# Altium schematic symbol library Connectors.SchLib: 107 symbols
Pins are listed as number, name and electrical type; pins without a type are passive.

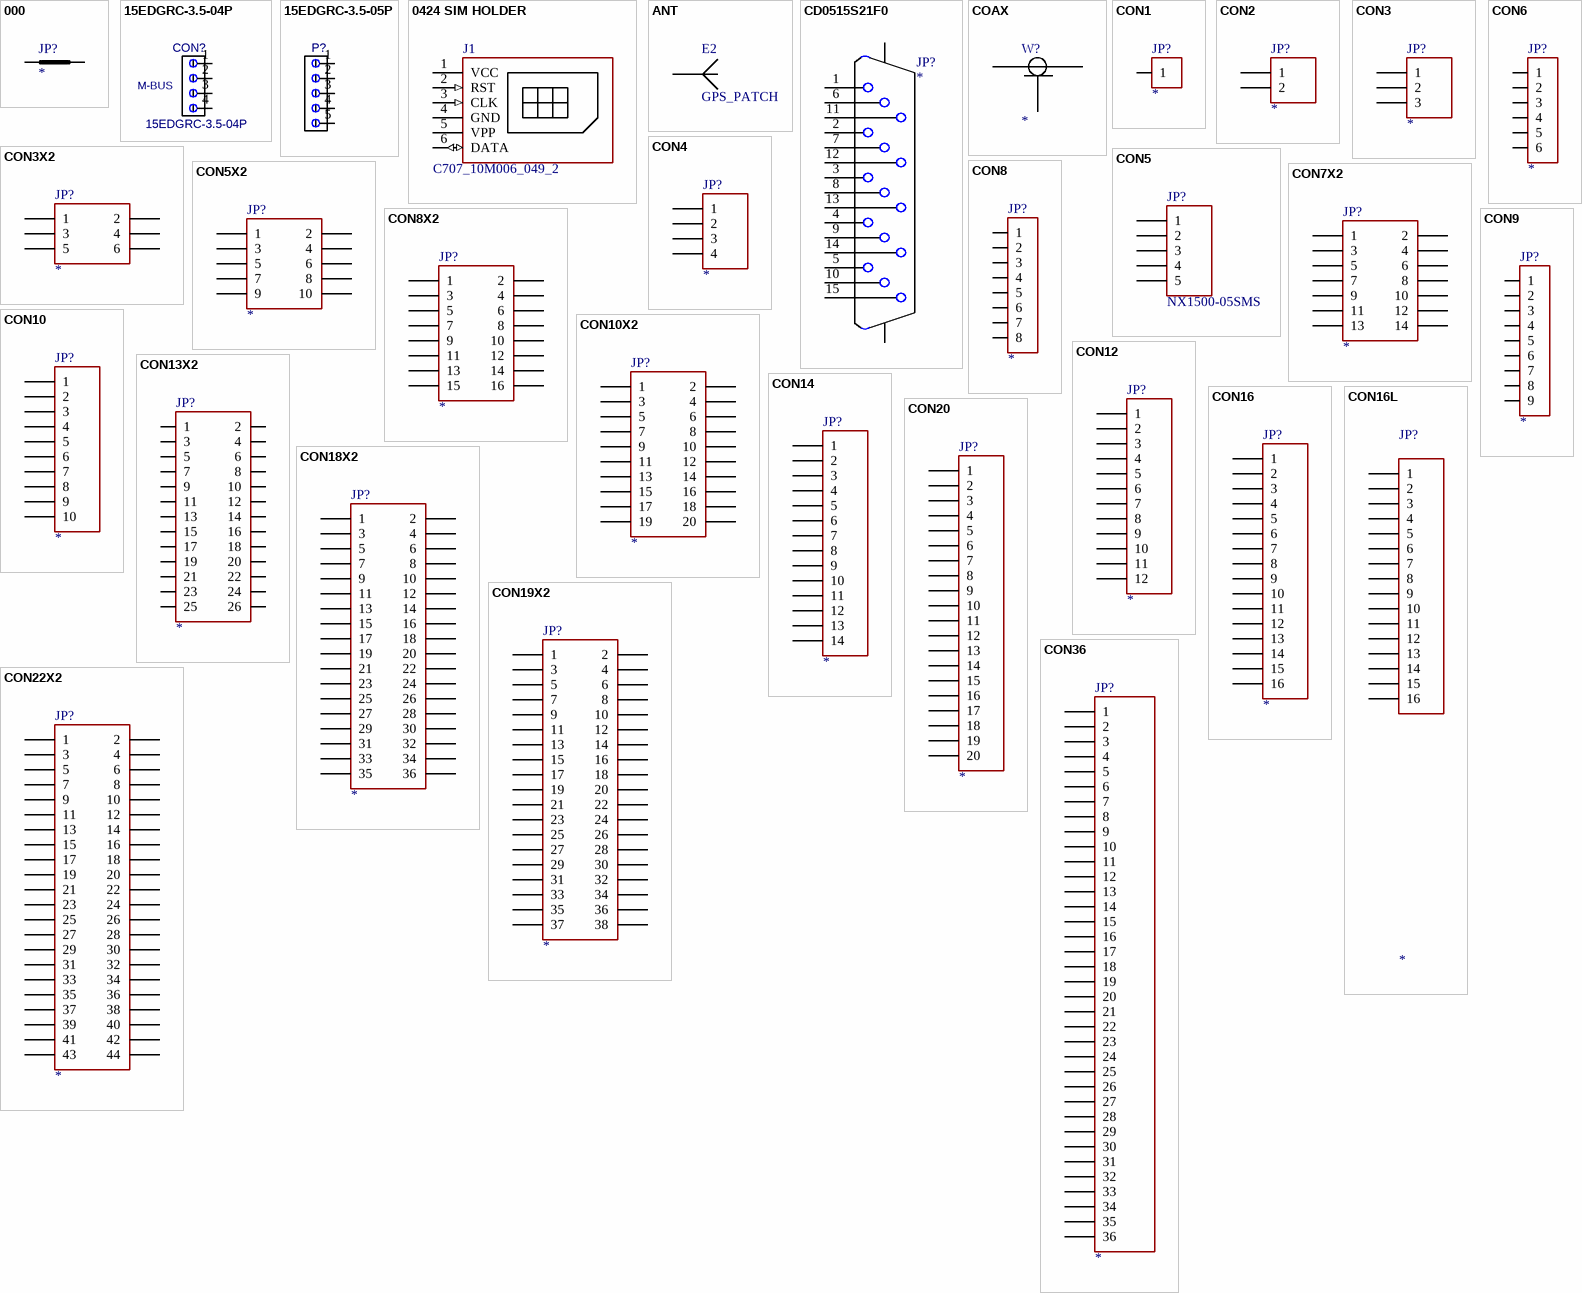
[diagram p0: symbols 000 to CON36]

## 000
designator JP?
Вид: Net Tie; *: *
footprint R-0805
footprint R-0603
footprint R-1206
footprint R-0402 (Chip Resistor, 2-Leads, Body 1,05x0,54mm, IPC Medium Density)
pins: 1, 2

## 15EDGRC-3.5-04P
designator CON?  value M-BUS
footprint 15EDGRC-3.5-04P
pins: 1, 2, 3, 4

## 15EDGRC-3.5-05P
designator P?  (value not drawn)
Value: *
footprint 15EDGRC-3.5-05P
pins: 1, 2, 3, 4, 5

## 0424 SIM HOLDER
designator J1, comment C707_10M006_049_2
Вид: Роз'єм
pins: 1 VCC (power), 2 RST (in), 3 CLK (in), 4 GND (power), 5 VPP (power), 6 DATA (io)

## ANT
designator E2, comment GPS_PATCH
Примітки: Пряма; Вид: Антена
footprint ANT_H868_V (helical 868 MHz antenna)
footprint SPRING433
footprint GPSANT_1818
pins: 1

## CD0515S21F0
designator JP?
Вид: Роз'єм; *: *
footprint CD0515S21F0
pins: 1, 2, 3, 4, 5, 6, 7, 8, 9, 10, 11, 12, 13, 14, 15, 16 (power), 17 (power)

## COAX
designator W?
Coaxial; Вид: Роз'єм; *: *
pins: 1 CENTER 1, 2 CENTER 2, 3 SHIELD

## CON1
designator JP?
Вид: Роз'єм; *: *
pins: 1

## CON2
designator JP?
Вид: Роз'єм; *: *
pins: 1, 2

## CON3
designator JP?
Вид: Роз'єм; *: *
pins: 1, 2, 3

## CON3X2
designator JP?
Вид: Роз'єм; *: *
pins: 1, 2, 3, 4, 5, 6

## CON4
designator JP?
Connector; Вид: Роз'єм; *: *
pins: 1, 2, 3, 4

## CON5
designator JP?, comment NX1500-05SMS
Вид: Роз'єм; Voltage: *; Виробник: *
footprint B5B-ZR
pins: 1, 2, 3, 4, 5

## CON5X2
designator JP?
Вид: Роз'єм; *: *
pins: 1, 2, 3, 4, 5, 6, 7, 8, 9, 10

## CON6
designator JP?
Вид: Роз'єм; *: *
pins: 1, 2, 3, 4, 5, 6

## CON7X2
designator JP?
Вид: Роз'єм; *: *
pins: 1, 2, 3, 4, 5, 6, 7, 8, 9, 10, 11, 12, 13, 14

## CON8
designator JP?
Вид: Роз'єм; *: *
pins: 1, 2, 3, 4, 5, 6, 7, 8

## CON8X2
designator JP?
Вид: Роз'єм; *: *
pins: 1, 2, 3, 4, 5, 6, 7, 8, 9, 10, 11, 12, 13, 14, 15, 16

## CON9
designator JP?
Вид: Роз'єм; *: *
pins: 1, 2, 3, 4, 5, 6, 7, 8, 9

## CON10
designator JP?
Вид: Роз'єм; *: *
pins: 1, 2, 3, 4, 5, 6, 7, 8, 9, 10

## CON10X2
designator JP?
Вид: Роз'єм; *: *
pins: 1, 2, 3, 4, 5, 6, 7, 8, 9, 10, 11, 12, 13, 14, 15, 16, 17, 18, 19, 20

## CON12
designator JP?
Connector; Вид: Роз'єм; *: *
pins: 1, 2, 3, 4, 5, 6, 7, 8, 9, 10, 11, 12

## CON13X2
designator JP?
Вид: Роз'єм; *: *
pins: 1, 2, 3, 4, 5, 6, 7, 8, 9, 10, 11, 12, 13, 14, 15, 16, 17, 18, 19, 20, 21, 22, 23, 24, 25, 26

## CON14
designator JP?
Connector; Вид: Роз'єм; *: *
pins: 1, 2, 3, 4, 5, 6, 7, 8, 9, 10, 11, 12, 13, 14

## CON16
designator JP?
Connector; Вид: Роз'єм; *: *
pins: 1, 2, 3, 4, 5, 6, 7, 8, 9, 10, 11, 12, 13, 14, 15, 16

## CON16L
designator JP?
Connector; Вид: Роз'єм; *: *
pins: 1, 2, 3, 4, 5, 6, 7, 8, 9, 10, 11, 12, 13, 14, 15, 16

## CON18X2
designator JP?
Вид: Роз'єм; *: *
pins: 1, 2, 3, 4, 5, 6, 7, 8, 9, 10, 11, 12, 13, 14, 15, 16, 17, 18, 19, 20, 21, 22, 23, 24, 25, 26, 27, 28, 29, 30, 31, 32, 33, 34, 35, 36

## CON19X2
designator JP?
Вид: Роз'єм; *: *
pins: 1, 2, 3, 4, 5, 6, 7, 8, 9, 10, 11, 12, 13, 14, 15, 16, 17, 18, 19, 20, 21, 22, 23, 24, 25, 26, 27, 28, 29, 30, 31, 32, 33, 34, 35, 36, 37, 38

## CON20
designator JP?
Connector; Вид: Роз'єм; *: *
pins: 1, 2, 3, 4, 5, 6, 7, 8, 9, 10, 11, 12, 13, 14, 15, 16, 17, 18, 19, 20

## CON22X2
designator JP?
Вид: Роз'єм; *: *
pins: 1, 2, 3, 4, 5, 6, 7, 8, 9, 10, 11, 12, 13, 14, 15, 16, 17, 18, 19, 20, 21, 22, 23, 24, 25, 26, 27, 28, 29, 30, 31, 32, 33, 34, 35, 36, 37, 38, 39, 40, 41, 42, 43, 44

## CON36
designator JP?
Connector; Вид: Роз'єм; *: *
pins: 1, 2, 3, 4, 5, 6, 7, 8, 9, 10, 11, 12, 13, 14, 15, 16, 17, 18, 19, 20, 21, 22, 23, 24, 25, 26, 27, 28, 29, 30, 31, 32, 33, 34, 35, 36

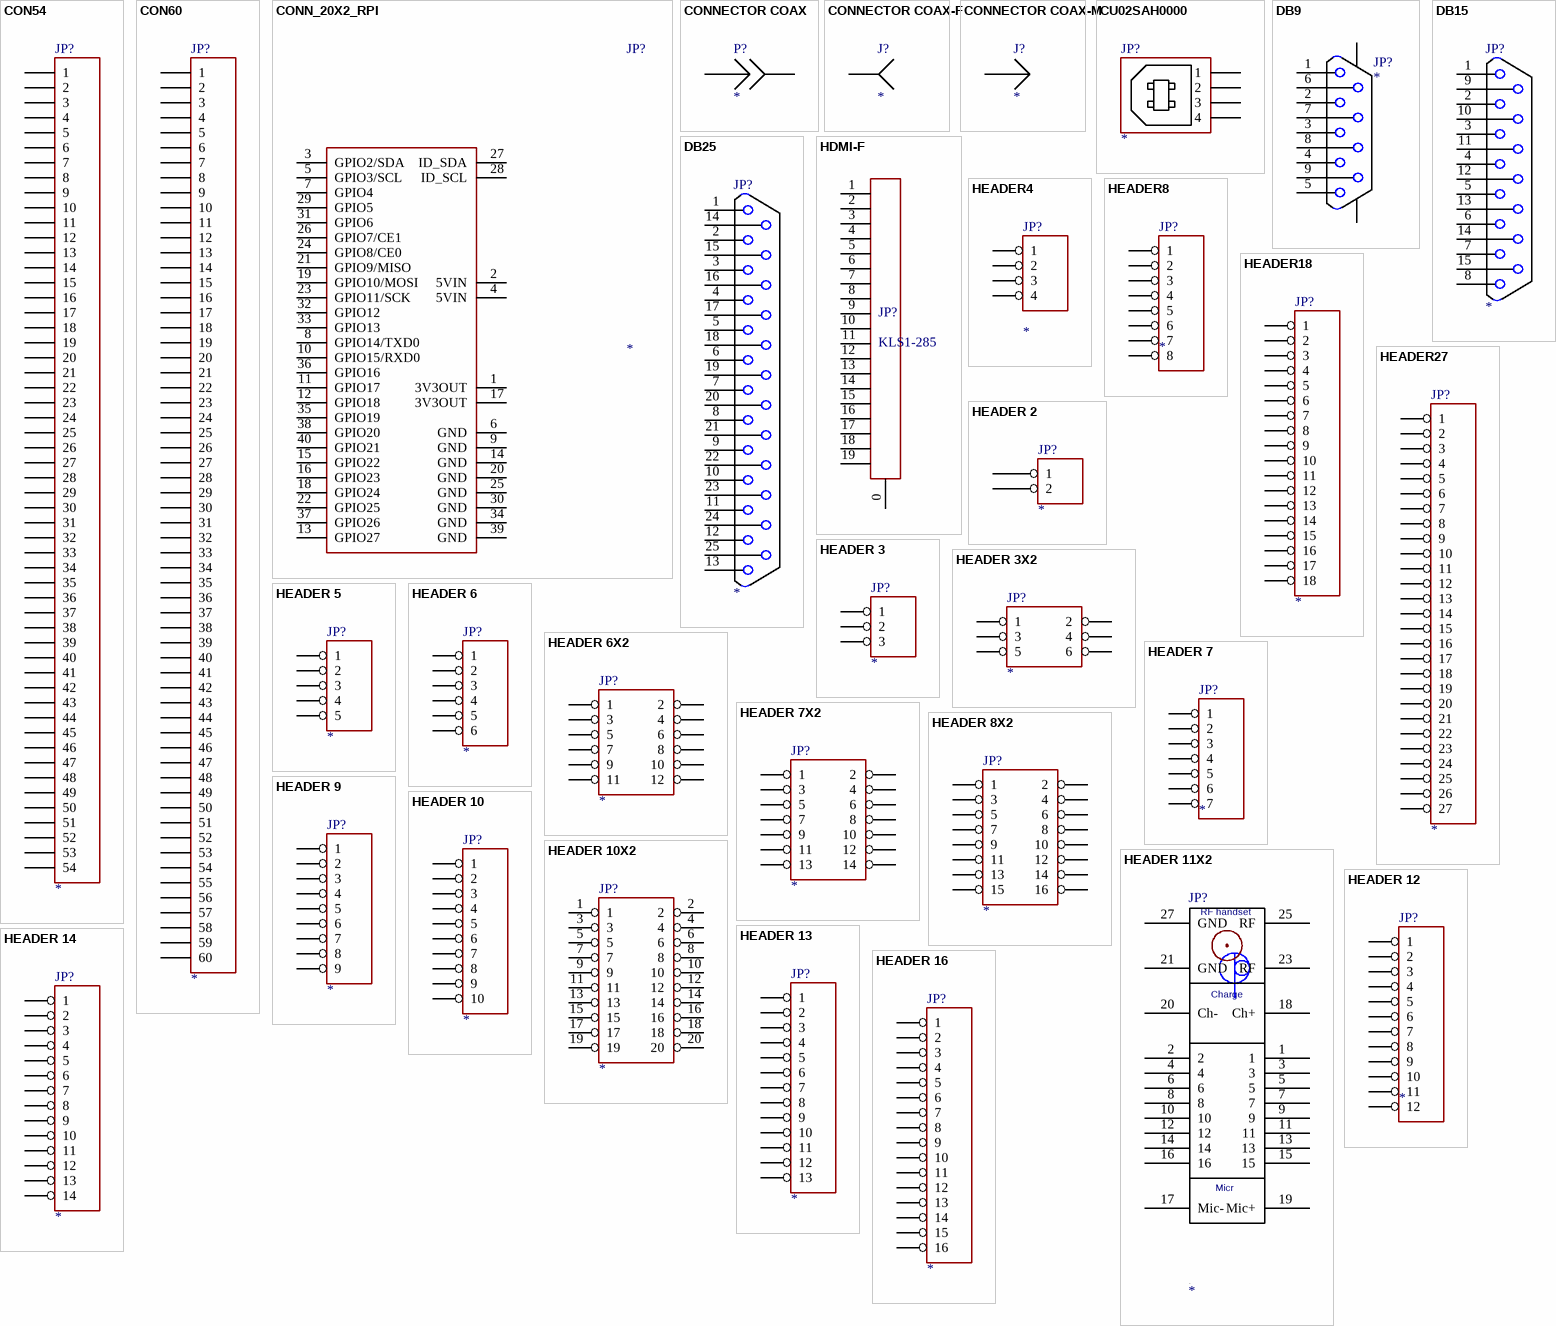
[diagram p1: symbols CON54 to HEADER 16]

## CON54
designator JP?
Connector; Вид: Роз'єм; *: *
pins: 1, 2, 3, 4, 5, 6, 7, 8, 9, 10, 11, 12, 13, 14, 15, 16, 17, 18, 19, 20, 21, 22, 23, 24, 25, 26, 27, 28, 29, 30, 31, 32, 33, 34, 35, 36, 37, 38, 39, 40, 41, 42, 43, 44, 45, 46, 47, 48, 49, 50, 51, 52, 53, 54

## CON60
designator JP?
Вид: Роз'єм; *: *
pins: 1, 2, 3, 4, 5, 6, 7, 8, 9, 10, 11, 12, 13, 14, 15, 16, 17, 18, 19, 20, 21, 22, 23, 24, 25, 26, 27, 28, 29, 30, 31, 32, 33, 34, 35, 36, 37, 38, 39, 40, 41, 42, 43, 44, 45, 46, 47, 48, 49, 50, 51, 52, 53, 54, 55, 56, 57, 58, 59, 60

## CONN_20X2_RPI
designator JP?
Вид: Роз'єм; *: *
pins: 1 3V3OUT, 2 5VIN, 3 GPIO2/SDA, 4 5VIN, 5 GPIO3/SCL, 6 GND, 7 GPIO4, 8 GPIO14/TXD0, 9 GND, 10 GPIO15/RXD0, 11 GPIO17, 12 GPIO18, 13 GPIO27, 14 GND, 15 GPIO22, 16 GPIO23, 17 3V3OUT, 18 GPIO24, 19 GPIO10/MOSI, 20 GND, 21 GPIO9/MISO, 22 GPIO25, 23 GPIO11/SCK, 24 GPIO8/CE0, 25 GND, 26 GPIO7/CE1, 27 ID_SDA, 28 ID_SCL, 29 GPIO5, 30 GND, 31 GPIO6, 32 GPIO12, 33 GPIO13, 34 GND, 35 GPIO19, 36 GPIO16, 37 GPIO26, 38 GPIO20, 39 GND, 40 GPIO21

## CONNECTOR COAX
designator P?
Вид: Роз'єм; *: *
pins: A, B

## CONNECTOR COAX-F
designator J?
Вид: Роз'єм; *: *
pins: A

## CONNECTOR COAX-M
designator J?
Вид: Роз'єм; *: *
pins: A

## CU02SAH0000
designator JP?
USB Type-B Receptacle Connector; Вид: Роз'єм; *: *
pins: 1, 2, 3, 4, 5 GND-D (power) hidden to GND-D, 6 GND-D (power) hidden to GND-D

## DB9
designator JP?
Вид: Роз'єм; *: *
pins: 1, 2, 3, 4, 5, 6, 7, 8, 9, BO1 (power), BO2 (power)

## DB15
designator JP?
Вид: Роз'єм; *: *
pins: 1, 2, 3, 4, 5, 6, 7, 8, 9, 10, 11, 12, 13, 14, 15

## DB25
designator JP?
Вид: Роз'єм; *: *
pins: 1, 2, 3, 4, 5, 6, 7, 8, 9, 10, 11, 12, 13, 14, 15, 16, 17, 18, 19, 20, 21, 22, 23, 24, 25

## HDMI-F
designator JP?, comment KLS1-285
pins: 0 SHLD, 1, 2, 3, 4, 5, 6, 7, 8, 9, 10, 11, 12, 13, 14, 15, 16, 17, 18, 19

## HEADER4
designator JP?
Вид: Роз'єм; *: *
footprint PLS1-4 (Header, Vertical, 2.54 mm pitch; 0.70 mm lead width, 4 pins, 1 row, 4 pins per row, 8.89 mm L X 2.54 mm W X 7.54 mm H body)
pins: 1, 2, 3, 4

## HEADER8
designator JP?
Вид: Роз'єм; *: *
footprint PLS1-8 (Header, Vertical, 2.54 mm pitch; 0.70 mm lead width, 8 pins, 1 row, 8 pins per row, 19.05 mm L X 2.54 mm W X 7.54 mm H body)
pins: 1, 2, 3, 4, 5, 6, 7, 8

## HEADER18
designator JP?
Вид: Роз'єм; *: *
pins: 1, 2, 3, 4, 5, 6, 7, 8, 9, 10, 11, 12, 13, 14, 15, 16, 17 (power), 18 (power)

## HEADER27
designator JP?
Вид: Роз'єм; *: *
pins: 1, 2, 3, 4, 5, 6, 7, 8, 9, 10, 11, 12, 13, 14, 15, 16, 17, 18, 19, 20, 21, 22, 23, 24, 25, 26, 27

## HEADER 2
designator JP?
Вид: Роз'єм; *: *
footprint PLS1-2 (Header, Vertical, 2.54 mm pitch; 0.64 mm lead width, 2 pins, 1 row, 2 pins per row, 5.08 mm L X 2.54 mm W X 8.54 mm H body)
footprint PLS1-2R (Header, Vertical, 2.54 mm pitch; 0.64 mm lead width, 2 pins, 1 row, 2 pins per row, 5.08 mm L X 2.54 mm W X 8.54 mm H body)
pins: 1, 2

## HEADER 3
designator JP?
Вид: Роз'єм; *: *
footprint PLS1-3 (Header, Vertical, 2.54 mm pitch; 0.70 mm lead width, 3 pins, 1 row, 3 pins per row, 6.35 mm L X 2.54 mm W X 7.54 mm H body)
footprint PLS1-3R (Header, Vertical, 2.54 mm pitch; 0.70 mm lead width, 3 pins, 1 row, 3 pins per row, 6.35 mm L X 2.54 mm W X 7.54 mm H body)
pins: 1, 2, 3

## HEADER 3X2
designator JP?
Вид: Роз'єм; *: *
pins: 1, 2, 3, 4, 5, 6

## HEADER 5
designator JP?
Вид: Роз'єм; *: *
footprint PLS1-5 (Header, Vertical, 2.54 mm pitch; 0.70 mm lead width, 5 pins, 1 row, 5 pins per row, 11.43 mm L X 2.54 mm W X 7.54 mm H body)
pins: 1, 2, 3, 4, 5

## HEADER 6
designator JP?
Вид: Роз'єм; *: *
footprint PLS1-6 (Header, Vertical, 2.54 mm pitch; 0.70 mm lead width, 6 pins, 1 row, 6 pins per row, 13.97 mm L X 2.54 mm W X 7.54 mm H body)
pins: 1, 2, 3, 4, 5, 6

## HEADER 6X2
designator JP?
Вид: Роз'єм; *: *
pins: 1, 2, 3, 4, 5, 6, 7, 8, 9, 10, 11, 12

## HEADER 7
designator JP?
Вид: Роз'єм; *: *
footprint PLS1-7 (Header, Vertical, 2.54 mm pitch; 0.70 mm lead width, 7 pins, 1 row, 7 pins per row, 16.51 mm L X 2.54 mm W X 7.54 mm H body)
footprint PLS1-7R (Header, Vertical, 2.54 mm pitch; 0.70 mm lead width, 7 pins, 1 row, 7 pins per row, 16.51 mm L X 2.54 mm W X 7.54 mm H body)
pins: 1, 2, 3, 4, 5, 6, 7

## HEADER 7X2
designator JP?
Вид: Роз'єм; *: *
footprint HDR2x7V
pins: 1, 2, 3, 4, 5, 6, 7, 8, 9, 10, 11, 12, 13, 14

## HEADER 8X2
designator JP?
Вид: Роз'єм; *: *
pins: 1, 2, 3, 4, 5, 6, 7, 8, 9, 10, 11, 12, 13, 14, 15, 16

## HEADER 9
designator JP?
Вид: Роз'єм; *: *
pins: 1, 2, 3, 4, 5, 6, 7, 8, 9

## HEADER 10
designator JP?
Вид: Роз'єм; *: *
footprint PLS1-10 (Header, Vertical, 2.54 mm pitch; 0.70 mm lead width, 10 pins, 1 row, 10 pins per row, 24.13 mm L X 2.54 mm W X 7.54 mm H body)
pins: 1, 2, 3, 4, 5, 6, 7, 8, 9, 10

## HEADER 10X2
designator JP?
Вид: Роз'єм; *: *
footprint PLS2_10 (Header, Vertical, 2.54 mm pitch; 0.70 mm lead width, 10 pins, 1 row, 10 pins per row, 24.13 mm L X 2.54 mm W X 7.54 mm H body)
pins: 1, 2, 3, 4, 5, 6, 7, 8, 9, 10, 11, 12, 13, 14, 15, 16, 17, 18, 19, 20

## HEADER 11X2
designator JP?
Вид: Роз'єм; *: *
pins: 1, 2, 3, 4, 5, 6, 7, 8, 9, 10, 11, 12, 13, 14, 15, 16, 17 Mic-, 18 Ch+, 19 Mic+, 20 Ch-, 21 GND, 23 RF, 25 RF, 27 GND
text: RF handset; Charge; Micr

## HEADER 12
designator JP?
Вид: Роз'єм; *: *
footprint PLS1-12R_1 (Header, Vertical, 2.54 mm pitch; 0.70 mm lead width, 10 pins, 1 row, 10 pins per row, 24.13 mm L X 2.54 mm W X 7.54 mm H body)
pins: 1, 2, 3, 4, 5, 6, 7, 8, 9, 10, 11, 12

## HEADER 13
designator JP?
Connector13; Вид: Роз'єм; *: *
pins: 1, 2, 3, 4, 5, 6, 7, 8, 9, 10, 11, 12, 13

## HEADER 14
designator JP?
Connector; Вид: Роз'єм; *: *
pins: 1, 2, 3, 4, 5, 6, 7, 8, 9, 10, 11, 12, 13, 14

## HEADER 16
designator JP?
Connector header 16; Вид: Роз'єм; *: *
pins: 1, 2, 3, 4, 5, 6, 7, 8, 9, 10, 11, 12, 13, 14, 15, 16

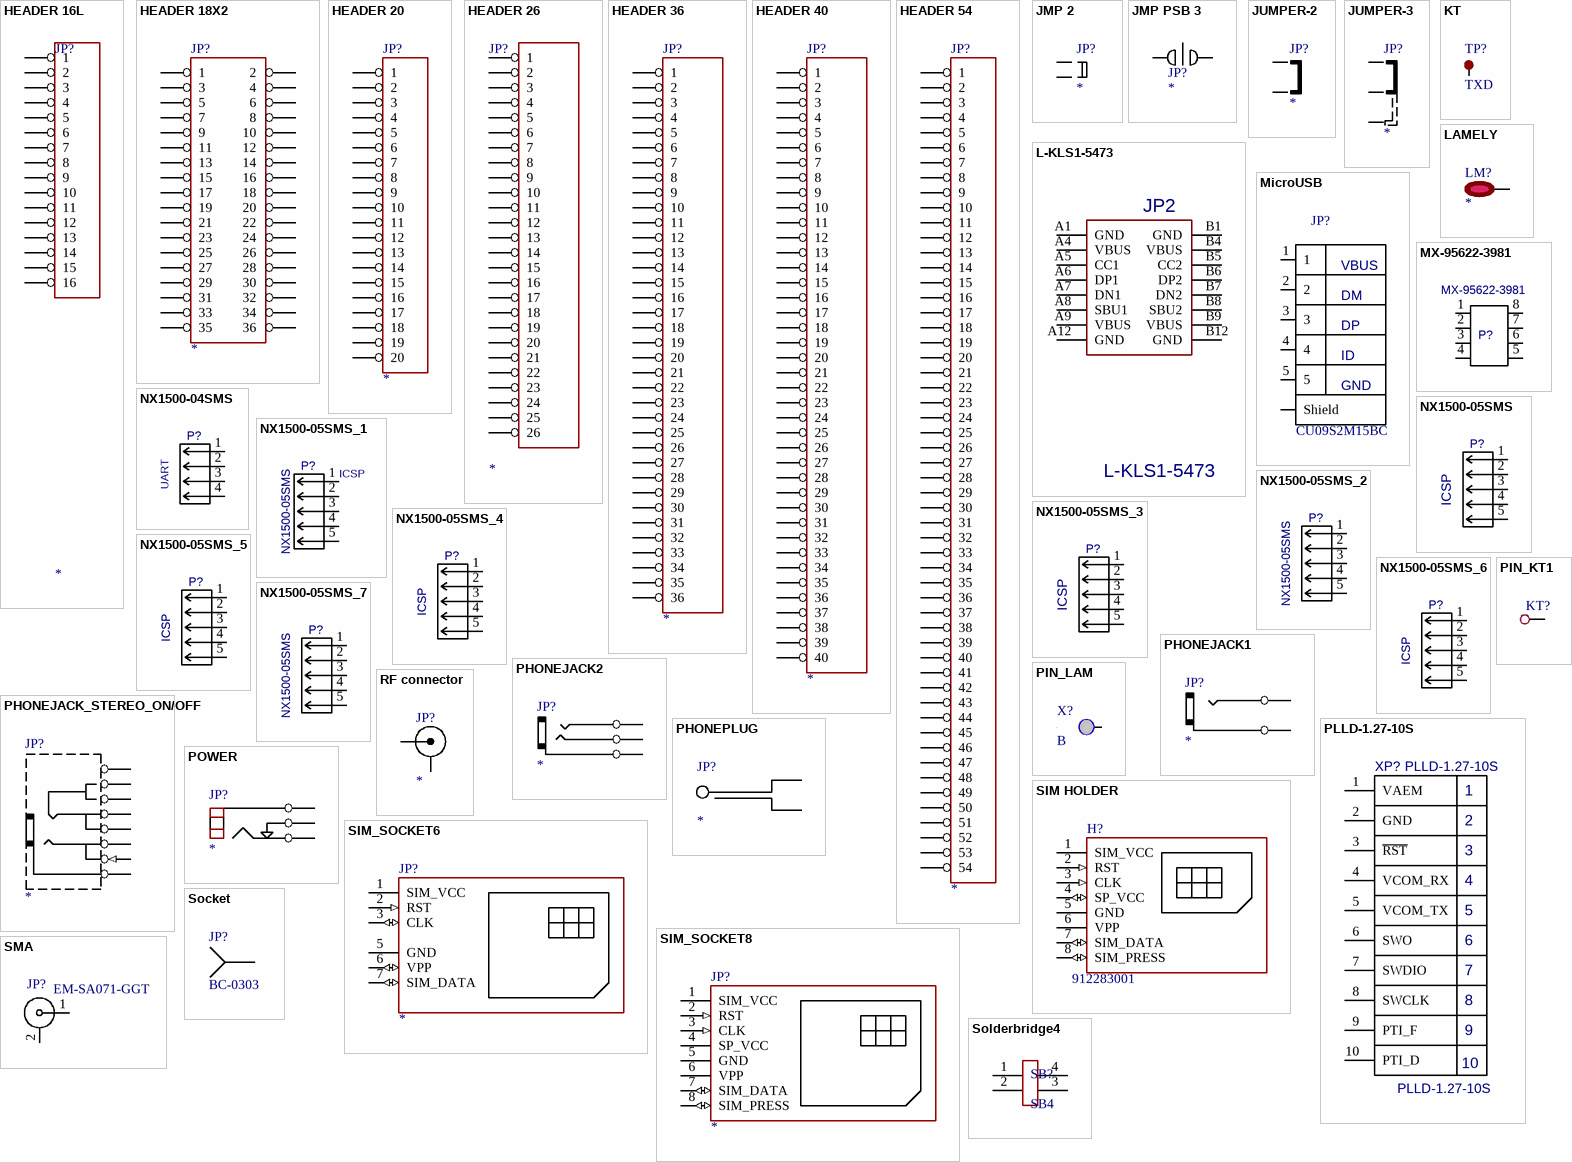
[diagram p2: symbols HEADER 16L to Solderbridge4]

## HEADER 16L
designator JP?
Connector header 16L; Вид: Роз'єм; *: *
pins: 1, 2, 3, 4, 5, 6, 7, 8, 9, 10, 11, 12, 13, 14, 15, 16

## HEADER 18X2
designator JP?
Вид: Роз'єм; *: *
pins: 1, 2, 3, 4, 5, 6, 7, 8, 9, 10, 11, 12, 13, 14, 15, 16, 17, 18, 19, 20, 21, 22, 23, 24, 25, 26, 27, 28, 29, 30, 31, 32, 33, 34, 35, 36

## HEADER 20
designator JP?
Header; Вид: Роз'єм; *: *
pins: 1, 2, 3, 4, 5, 6, 7, 8, 9, 10, 11, 12, 13, 14, 15, 16, 17, 18, 19, 20

## HEADER 26
designator JP?
Connector; Вид: Роз'єм; *: *
pins: 1, 2, 3, 4, 5, 6, 7, 8, 9, 10, 11, 12, 13, 14, 15, 16, 17, 18, 19, 20, 21, 22, 23, 24, 25, 26

## HEADER 36
designator JP?
Connector; Вид: Роз'єм; *: *
pins: 1, 2, 3, 4, 5, 6, 7, 8, 9, 10, 11, 12, 13, 14, 15, 16, 17, 18, 19, 20, 21, 22, 23, 24, 25, 26, 27, 28, 29, 30, 31, 32, 33, 34, 35, 36

## HEADER 40
designator JP?
Connector; Вид: Роз'єм; *: *
pins: 1, 2, 3, 4, 5, 6, 7, 8, 9, 10, 11, 12, 13, 14, 15, 16, 17, 18, 19, 20, 21, 22, 23, 24, 25, 26, 27, 28, 29, 30, 31, 32, 33, 34, 35, 36, 37, 38, 39, 40

## HEADER 54
designator JP?
Connector; Вид: Роз'єм; *: *
pins: 1, 2, 3, 4, 5, 6, 7, 8, 9, 10, 11, 12, 13, 14, 15, 16, 17, 18, 19, 20, 21, 22, 23, 24, 25, 26, 27, 28, 29, 30, 31, 32, 33, 34, 35, 36, 37, 38, 39, 40, 41, 42, 43, 44, 45, 46, 47, 48, 49, 50, 51, 52, 53, 54

## JMP 2
designator JP?
Вид: Роз'єм
pins: 1, 2

## JMP PSB 3
designator JP?  (no BOM)
Вид: Роз'єм
pins: 0, 1, 2

## JUMPER-2
designator JP?
Jumper; Вид: Роз'єм; *: *
pins: 1, 2

## JUMPER-3
designator JP?
Jumper; Вид: Роз'єм; *: *
footprint JMP3 (Header, Vertical, 2.54 mm pitch; 0.70 mm lead width, 3 pins, 1 row, 3 pins per row, 6.35 mm L X 2.54 mm W X 7.54 mm H body)
pins: 1, 2, 3

## KT
designator TP?, comment TXD  (no BOM)
Control Pin; Вид: Роз'єм; Voltage: *; Виробник: *
footprint KT-1
pins: 1 KT

## L-KLS1-5473
designator JP2
Mounting  Method: SMD; Value: *
footprint L-KLS1-5473 (USB 3.1 Type C)
pins: 17 VSS (power) hidden, A1 GND, A4 VBUS, A5 CC1, A6 DP1, A7 DN1, A8 SBU1, A9 VBUS, A12 GND, B1 GND, B4 VBUS, B5 CC2, B6 DP2, B7 DN2, B8 SBU2, B9 VBUS, B12 GND

## LAMELY
designator LM?  (no BOM)
Lamely; Вид: Роз'єм; *: *
pins: 1 Lamely

## MicroUSB
designator JP?, comment CU09S2M15BC
CU09 Series Micro USB2.0 Connectors; Вид: Роз'єм
pins: 1, 2, 3, 4, 5, 6 Shield
text: VBUS; DM; DP; ID; GND

## MX-95622-3981
designator P?
Value: *
footprint 8P8C_KEY_DOWN
pins: 1, 2, 3, 4, 5, 6, 7, 8, 9 hidden, 10 hidden

## NX1500-04SMS
designator P?  value UART  (hidden comment: NX1500-04SMS)
footprint A1500WV-04P
pins: 1, 2, 3, 4

## NX1500-05SMS
designator P?  value ICSP  (hidden comment: NX1500-05SMS)
footprint A1500WV-05P
footprint NX1500-05SMS (connector, 1/5 mm pitch, male, 5 pins)
pins: 1, 2, 3, 4, 5

## NX1500-05SMS_1
designator P?, comment NX1500-05SMS  value ICSP
footprint A1500WV-05P
pins: 1, 2, 3, 4, 5

## NX1500-05SMS_2
designator P?, comment NX1500-05SMS
Value: *
footprint A1500WV-05P
pins: 1, 2, 3, 4, 5

## NX1500-05SMS_3
designator P?, comment value ICSP  (hidden comment: NX1500-05SMS)
footprint A1500WV-05P
pins: 1, 2, 3, 4, 5

## NX1500-05SMS_4
designator P?, comment value ICSP  (hidden comment: NX1500-05SMS)
footprint A1500WV-05P
pins: 1, 2, 3, 4, 5

## NX1500-05SMS_5
designator P?, comment value ICSP  (hidden comment: NX1500-05SMS)
footprint A1500WV-05P
pins: 1, 2, 3, 4, 5

## NX1500-05SMS_6
designator P?, comment value ICSP  (hidden comment: NX1500-05SMS)
footprint A1500WV-05P
pins: 1, 2, 3, 4, 5

## NX1500-05SMS_7
designator P?, comment NX1500-05SMS
Value: *
footprint A1500WV-05P
pins: 1, 2, 3, 4, 5

## PHONEJACK1
designator JP?
test98; Вид: Роз'єм; *: *
pins: 1 A, 2 B

## PHONEJACK2
designator JP?
Вид: Роз'єм; *: *
pins: 1 A, 2 B, 3 C

## PHONEJACK_STEREO_ON/OFF
designator JP?
Вид: Роз'єм; *: *
pins: 1 Comon, 2 Left1 (in), 3 Left2, 4 Right1, 5 Right2, 6 A, 7 SW, 8 B

## PHONEPLUG
designator JP?
Вид: Роз'єм; *: *
pins: 1 A, 2 B

## PIN_KT1
designator KT?  (no BOM)
Pin; Вид: Роз'єм; *: *
pins: 1 Lamely

## PIN_LAM
designator X?, comment B  (no BOM)
Lamel; Вид: Роз'єм; *: *
pins: 1 Lamely

## PLLD-1.27-10S
designator XP?
Mounting  Method: SMD; Вид: Роз'єм; Value: PLLD-1.27-10S
footprint PLLD-1.27-10S
pins: 1 VAEM, 2 GND, 3 ~{RST}, 4 VCOM_RX, 5 VCOM_TX, 6 SWO, 7 SWDIO, 8 SWCLK, 9 PTI_F, 10 PTI_D

## POWER
designator JP?
Вид: Роз'єм; *: *
footprint ADC010 (DC power jack, 2mm, vertical)
footprint DC-140-003_3
pins: 1 A, 2 C, 3 B

## RF connector
designator JP?
RF Connector; Вид: Роз'єм; *: *
footprint AMPHENOL_132357-11 (SMA End Launch Jack for 1.58mm PCB, 50 Ohm, Flat Tab Contact)
pins: 1 X, 2 Y

## SIM HOLDER
designator H?, comment 912283001
2.54mm Pitch ChipSIM Connector with Ejector, 6 Circuits, without Pegs, Yellow Button, Use With:  Card Holder 912360001; Вид: Роз'єм
pins: 1 SIM_VCC (power), 2 RST (in), 3 CLK (in), 4 SP_VCC (io), 5 GND (power), 6 VPP (power), 7 SIM_DATA (io), 8 SIM_PRESS (io)

## SIM_SOCKET6
designator JP?
Вид: Роз'єм; *: *
pins: 1 SIM_VCC (power), 2 RST (in), 3 CLK (io), 5 GND (power), 6 VPP (io), 7 SIM_DATA (io)

## SIM_SOCKET8
designator JP?
Вид: Роз'єм; *: *
pins: 1 SIM_VCC (power), 2 RST (in), 3 CLK (in), 4 SP_VCC (power), 5 GND (power), 6 VPP (power), 7 SIM_DATA (io), 8 SIM_PRESS (io)

## SMA
designator JP?, comment EM-SA071-GGT
SMA Female R/A PCB Mount; Вид: Роз'єм
footprint AMPHENOL_132357-11 (SMA End Launch Jack for 1.58mm PCB, 50 Ohm, Flat Tab Contact)
pins: 1, 2

## Socket
designator JP?, comment BC-0303
Socket; Вид: Роз'єм
footprint BC0303
pins: 1

## Solderbridge4
designator SB?, comment SB4  (no BOM)
Вид: Перемичка
pins: 1, 2, 3, 4

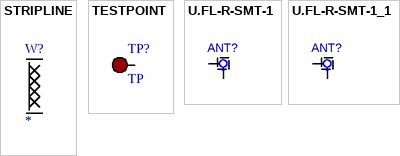
[diagram p3: symbols STRIPLINE to U.FL-R-SMT-1_1]

## STRIPLINE
designator W?  (no BOM)
Вид: Роз'єм

## TESTPOINT
designator TP?, comment TP  (no BOM)
Вид: Роз'єм
footprint TESTPOINT_1.8mm
pins: 1

## U.FL-R-SMT-1
designator ANT?  (value not drawn)
Value: *
footprint U.FL-R-SMT-1_ANT
pins: 1, 2, 3 hidden

## U.FL-R-SMT-1_1
designator ANT?, comment U.FL-R-SMT-1  (value not drawn)
Value: *
footprint U.FL-R-SMT-1_ANT
pins: 1, 2, 3 hidden